# Altium footprint library AIRZAI_LID_BD_REVA.PcbLib: 60 footprints (part 4 of 4)
Each footprint in its own frame and in the unit in brackets; x right, y up, seen from the top. Pads: shape width x height; smd on the part's side, far side on the other; paste and mask are expansions set on the pad; w line width, h text height; cw(c..) or ccw(c..) is an arc to the next point about the centre after c.
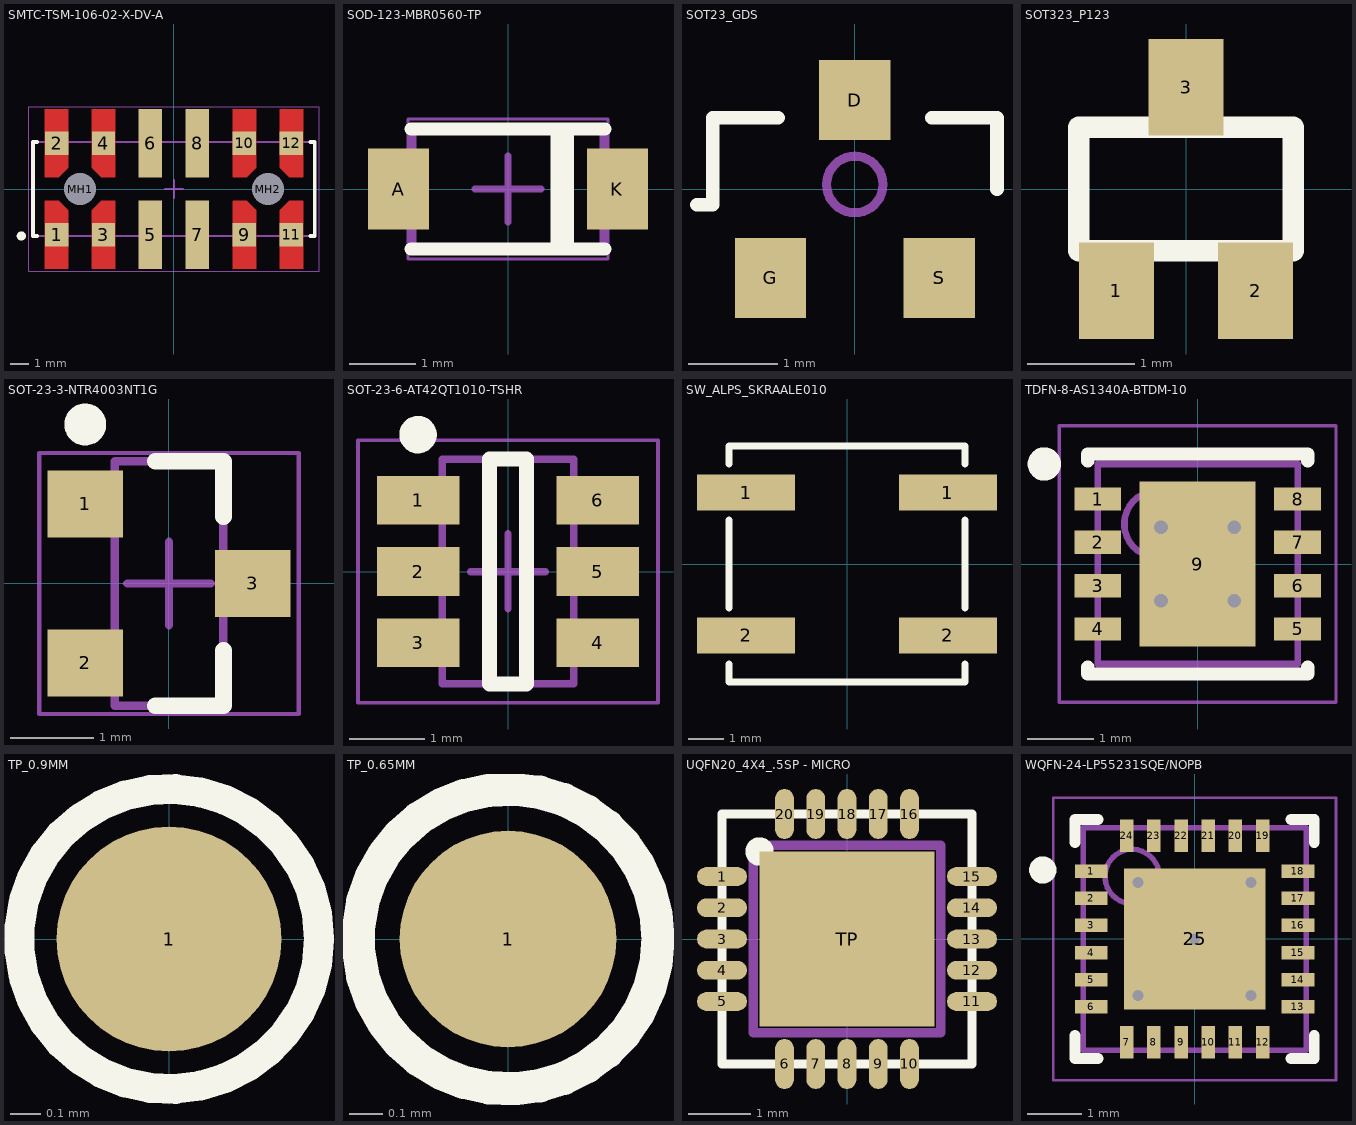
[diagram p3: the footprints below, top view; thin cyan lines are the x and y axes]

## SMTC-TSM-106-02-X-DV-A [mm] "Double Row Gullwing Asm, 2x6 Pins, Vertical, 2.54mm Pitch, Male"
height 12.19
pads (14):
  rect 1.27x1.27 smd: 1(-6.35,-2.475) 2(-6.35,2.475) 3(-3.81,-2.475) 4(-3.81,2.475) 9(3.81,-2.475) 10(3.81,2.475) 11(6.35,-2.475) 12(6.35,2.475)
  rect 1.27x3.68 smd: 5(-1.27,-2.475) 6(-1.27,2.475) 7(1.27,-2.475) 8(1.27,2.475)
  round 1.43 hole 1.73 unplated: MH1(-5.08,0) MH2(5.08,0)
Top Layer:
  region: -6.985,0.635 -6.225,0.635 -5.715,1.145 -5.715,4.315 -6.985,4.315
  region: -3.175,0.635 -3.935,0.635 -4.445,1.145 -4.445,4.315 -3.175,4.315
  region: 6.985,0.635 6.225,0.635 5.715,1.145 5.715,4.315 6.985,4.315
  region: 3.175,0.635 3.935,0.635 4.445,1.145 4.445,4.315 3.175,4.315
  region: 3.175,-0.635 3.935,-0.635 4.445,-1.145 4.445,-4.315 3.175,-4.315
  region: 6.985,-0.635 6.225,-0.635 5.715,-1.145 5.715,-4.315 6.985,-4.315
  region: -3.175,-0.635 -3.935,-0.635 -4.445,-1.145 -4.445,-4.315 -3.175,-4.315
  region: -6.985,-0.635 -6.225,-0.635 -5.715,-1.145 -5.715,-4.315 -6.985,-4.315
Top Overlay:
  circle w0.25: c-8.255,-2.54 r0.125
  lines w0.2: -7.385,-2.54 -7.62,-2.54 -7.62,2.54 -7.385,2.54 ; 7.385,-2.54 7.62,-2.54 7.62,2.54 7.385,2.54
Mechanical 13:
  lines w0.1: -7.62,-2.54 -7.62,2.54 7.62,2.54 7.62,-2.54 -7.62,-2.54
Mechanical 15:
  lines w0.05: -7.845,-4.44 -7.845,4.44 7.845,4.44 7.845,-4.44 -7.845,-4.44
  lines w0.1: -0.5,0 0.5,0 ; 0,-0.5 0,0.5
3D body "TSM-106-02-T-DV-A-TR.stp": height 11.94, standoff -1.27, extent -7.62,-3.721 7.62,3.721

## SOD-123-MBR0560-TP [mil] "SODFL, 2-Leads, Body 1.8x2.85mm, IPC Medium Density"
height 53.15
pads (2):
  rect 36x48.03 smd: A(-64.5,0) K(64.5,0)
Top Overlay:
  lines w7.8: 29,-35 29,35 ; 35,-35 35,34.43
  lines w7.87: -57.09,-35.43 57.09,-35.43 ; -57.09,35.43 57.09,35.43
Mechanical 13:
  lines w3.94: -56.1,-35.43 56.1,-35.43 56.1,35.43 -56.1,35.43 -56.1,-35.43
Mechanical 15:
  lines w1.97: -59.06,-41.34 59.06,-41.34 59.06,41.34 -59.06,41.34 -59.06,-41.34
  lines w3.94: -19.68,0 19.68,0 ; 0,-19.68 0,19.68
3D body "SW3DPS-SOD123-DEFAULT.STEP": height 52, standoff 2, extent -72.83,-31.49 72.84,31.51

## SOT23_GDS [mm]
height 1.2
pads (3):
  rect 0.8x0.9 smd: D(0,1)
  rect 0.8x0.9 smd paste-0.05 mask+0.07: G(-0.95,-1) S(0.95,-1)
Top Overlay:
  lines w0.152: -1.775,-0.175 -1.6,-0.175 -1.6,0.8 -0.864,0.8 ; 0.864,0.8 1.6,0.8 1.6,0
Mechanical 3:
  lines w0.102: -0.318,0.051 cw(c0,0.051) 0,0.368 cw(c0,0.051) 0.318,0.051 cw(c0,0.051) 0,-0.267 cw(c0,0.051) -0.318,0.051
3D body: height 1.2, standoff 0, extent -1.5,-0.7 1.5,0.7

## SOT323_P123 [mm] "123_PINS"
height 1
pads (3):
  rect 0.7x0.9 smd: 1(-0.65,-0.95) 2(0.65,-0.95) 3(0,0.95)
Top Overlay:
  lines w0.2: -1,-0.575 1,-0.575 1,0.575 -1,0.575 -1,-0.575
Mechanical 1:
  lines w0.127: -1,-0.6 -0.85,-0.6 1,-0.6 1,0.6 -1,0.6 -1,-0.6
3D body: height 0.1, standoff 0, extent 0.45,-1.1 0.85,-0.675
3D body: height 0.1, standoff 0, extent -0.85,-1.1 -0.45,-0.675
3D body: height 0.1, standoff 0, extent -0.2,0.675 0.2,1.1
3D body: height 1.1, standoff 0.1, extent -1.1,-0.675 1.1,0.675

## SOT-23-3-NTR4003NT1G [mm] "SOT23, 3-Leads, Body 2.92x1.3mm, Pitch 0.95mm"
height 1.11
pads (3):
  rect 0.9x0.8 smd: 1(-1,0.95) 2(-1,-0.95) 3(1,0)
Top Overlay:
  circle w0.25: c-1,1.9 r0.125
  lines w0.2: -0.165,-1.46 0.65,-1.46 0.65,-0.8 ; -0.165,1.46 0.65,1.46 0.65,0.8
Mechanical 13:
  lines w0.1: -0.65,-1.46 -0.65,1.46 0.65,1.46 0.65,-1.46 -0.65,-1.46
Mechanical 15:
  lines w0.05: -1.55,-1.56 -1.55,1.56 1.55,1.56 1.55,-1.56 -1.55,-1.56
  lines w0.1: -0.5,0 0.5,0 ; 0,-0.5 0,0.5
3D body: height 1.11, standoff 0.01, extent -0.65,-1.46 0.65,1.46

## SOT-23-6-AT42QT1010-TSHR [mm] "SOT23, 6-Leads, Body 2.9x1.6mm, Pitch 0.95mm, Lead Span 2.8mm, IPC Medium Density"
height 1.45
pads (6):
  rect 1.1x0.65 smd: 1(-1.2,0.95) 2(-1.2,0) 3(-1.2,-0.95) 4(1.2,-0.95) 5(1.2,0) 6(1.2,0.95)
Top Overlay:
  circle w0.25: c-1.2,1.825 r0.125
  lines w0.2: -0.25,-1.5 0.25,-1.5 0.25,1.5 -0.25,1.5 -0.25,-1.5
Mechanical 13:
  lines w0.1: -0.875,-1.5 -0.875,1.5 0.875,1.5 0.875,-1.5 -0.875,-1.5
Mechanical 15:
  lines w0.05: -2,-1.75 -2,1.75 2,1.75 2,-1.75 -2,-1.75
  lines w0.1: -0.5,0 0.5,0 ; 0,-0.5 0,0.5
3D body: height 1.45, standoff 0, extent -0.875,-1.5 0.875,1.5

## SW_ALPS_SKRAALE010 [mm] "6.2MM SQ 2.9RD ACT"
height 3.4
pads (4):
  rect 2.75x1 smd paste-0.1 mask+0.102: 1(-2.825,2) 1(2.825,2) 2(-2.825,-2) 2(2.825,-2)
Top Overlay:
  lines w0.198: -3.3,-2.8 -3.3,-3.3 3.3,-3.3 3.3,-2.8 ; -3.3,-1.233 -3.3,1.232 ; -3.3,2.8 -3.3,3.3 3.3,3.3 3.3,2.8 ; 3.3,-1.233 3.3,1.232
3D body "SKRAAL.STEP": height 3.48, standoff 0, extent -3.399,-3.215 3.399,3.215

## TDFN-8-AS1340A-BTDM-10 [mm]
height 0.8
pads (9):
  rect 0.7x0.35 smd: 1(-1.498,0.975) 2(-1.498,0.325) 3(-1.498,-0.325) 4(-1.498,-0.975) 5(1.498,-0.975) 6(1.498,-0.325) 7(1.498,0.325) 8(1.498,0.975)
  rect 1.74x2.48 smd: 9(0,0)
via -0.55,0.55 diameter 0.508 hole 0.203
via 0.55,0.55 diameter 0.508 hole 0.203
via -0.55,-0.55 diameter 0.508 hole 0.203
via 0.55,-0.55 diameter 0.508 hole 0.203
Top Overlay:
  circle w0.25: c-2.3,1.5 r0.125
  lines w0.2: -1.65,-1.55 -1.65,-1.65 0.25,-1.65 1.65,-1.65 1.65,-1.55 ; -1.65,1.55 -1.65,1.65 0.25,1.65 1.65,1.65 1.65,1.55
Mechanical 13:
  circle w0.1: c-0.6,0.6 r0.5
  lines w0.1: -1.5,-1.5 -1.5,1.5 1.5,1.5 1.5,-1.5 -1.5,-1.5
Mechanical 15:
  lines w0.05: -2.075,-2.075 -2.075,2.075 2.075,2.075 2.075,-2.075 -2.075,-2.075
  lines w0.1: -0.5,0 0.5,0 ; 0,-0.5 0,0.5
3D body "TDFN-8-AS1340A-BTDM-10.step": height 0.8, standoff 0, extent -1.51,-1.5 1.51,1.5

## TP_0.9MM [mm] "0.9MM DIA TESTPOINT"
height 7
pads (1):
  round 0.75 smd paste-5 mask+0.05: 1(0,0)
Top Overlay:
  circle w0.1: c0,0 r0.5

## TP_0.65MM [mm] "0.65MM DIA TESTPOINT"
height 7
pads (1):
  round 0.65 smd paste-5 mask+0.05: 1(0,0)
Top Overlay:
  circle w0.1: c0,0 r0.45

## UQFN20_4X4_.5SP - MICRO [mm]
height 0.5
pads (21):
  rrect100% 0.8x0.3 smd paste-0.025 mask+0.05: 1(-2,1) 2(-2,0.5) 3(-2,0) 4(-2,-0.5) 5(-2,-1) 11(2,-1) 12(2,-0.5) 13(2,0) 14(2,0.5) 15(2,1)
  rrect100% 0.3x0.8 smd paste-0.025 mask+0.05: 6(-1,-2) 7(-0.5,-2) 8(0,-2) 9(0.5,-2) 10(1,-2) 16(1,2) 17(0.5,2) 18(0,2) 19(-0.5,2) 20(-1,2)
  rect 2.8x2.8 smd paste-5 mask+0.05: TP(0,0)
Top Overlay:
  circle w0.254: c-1.4,1.4 r0.1
  lines w0.15: -2,-2 -2,2 2,2 2,-2 -2,-2
Top Paste:
  region: 1.194,-0.508 1.202,-0.527 1.202,-1.077 1.194,-1.096 1.175,-1.104 0.625,-1.104 0.606,-1.096 0.598,-1.077 0.598,-0.527 0.606,-0.508 0.625,-0.5 1.175,-0.5
  region: 1.192,0.294 1.2,0.275 1.2,-0.275 1.192,-0.294 1.173,-0.302 0.623,-0.302 0.604,-0.294 0.596,-0.275 0.596,0.275 0.604,0.294 0.623,0.302 1.173,0.302
  region: 1.194,1.096 1.202,1.077 1.202,0.527 1.194,0.508 1.175,0.5 0.625,0.5 0.606,0.508 0.598,0.527 0.598,1.077 0.606,1.096 0.625,1.104 1.175,1.104
  region: 0.294,-0.508 0.302,-0.527 0.302,-1.077 0.294,-1.096 0.275,-1.104 -0.275,-1.104 -0.294,-1.096 -0.302,-1.077 -0.302,-0.527 -0.294,-0.508 -0.275,-0.5 0.275,-0.5
  region: 0.292,0.294 0.3,0.275 0.3,-0.275 0.292,-0.294 0.273,-0.302 -0.277,-0.302 -0.296,-0.294 -0.304,-0.275 -0.304,0.275 -0.296,0.294 -0.277,0.302 0.273,0.302
  region: 0.294,1.096 0.302,1.077 0.302,0.527 0.294,0.508 0.275,0.5 -0.275,0.5 -0.294,0.508 -0.302,0.527 -0.302,1.077 -0.294,1.096 -0.275,1.104 0.275,1.104
  region: -0.606,1.096 -0.598,1.077 -0.598,0.527 -0.606,0.508 -0.625,0.5 -1.175,0.5 -1.194,0.508 -1.202,0.527 -1.202,1.077 -1.194,1.096 -1.175,1.104 -0.625,1.104
  region: -0.608,0.294 -0.6,0.275 -0.6,-0.275 -0.608,-0.294 -0.627,-0.302 -1.177,-0.302 -1.196,-0.294 -1.204,-0.275 -1.204,0.275 -1.196,0.294 -1.177,0.302 -0.627,0.302
  region: -0.606,-0.508 -0.598,-0.527 -0.598,-1.077 -0.606,-1.096 -0.625,-1.104 -1.175,-1.104 -1.194,-1.096 -1.202,-1.077 -1.202,-0.527 -1.194,-0.508 -1.175,-0.5 -0.625,-0.5
Mechanical 1:
  circle w0.15: c-0.85,-0.85 r0.206
  lines w0.15: -1.5,-1.5 -1.5,1.5 1.5,1.5 1.5,-1.5 -1.5,-1.5
  text ".Designator" at -1.1,-0.325 h0.48
3D body: height 0.5, standoff 0, extent -2,-2 2,2

## WQFN-24-LP55231SQE/NOPB [mm] "QFN, 24-Leads, Body 3.97x3.97mm, Pitch 0.50mm, Thermal Pad 2.60x2.60mm, IPC Medium Density"
height 0.8
pads (25):
  rect 0.6x0.25 smd: 1(-1.9,1.25) 2(-1.9,0.75) 3(-1.9,0.25) 4(-1.9,-0.25) 5(-1.9,-0.75) 6(-1.9,-1.25) 13(1.9,-1.25) 14(1.9,-0.75) 15(1.9,-0.25) 16(1.9,0.25) 17(1.9,0.75) 18(1.9,1.25)
  rect 0.25x0.6 smd: 7(-1.25,-1.9) 8(-0.75,-1.9) 9(-0.25,-1.9) 10(0.25,-1.9) 11(0.75,-1.9) 12(1.25,-1.9) 19(1.25,1.9) 20(0.75,1.9) 21(0.25,1.9) 22(-0.25,1.9) 23(-0.75,1.9) 24(-1.25,1.9)
  rect 2.6x2.6 smd: 25(0,0)
via 0,0 diameter 0.508 hole 0.203
via -1.04,1.04 diameter 0.508 hole 0.203
via 1.04,1.04 diameter 0.508 hole 0.203
via -1.04,-1.04 diameter 0.508 hole 0.203
via 1.04,-1.04 diameter 0.508 hole 0.203
Top Overlay:
  circle w0.25: c-2.794,1.27 r0.125
  lines w0.2: -2.2,-1.775 -2.2,-2.2 -1.775,-2.2 ; -2.2,1.775 -2.2,2.2 -1.775,2.2 ; 1.775,-2.2 2.2,-2.2 2.2,-1.775 ; 1.775,2.2 2.2,2.2 2.2,1.775
Mechanical 13:
  circle w0.1: c-1.15,1.15 r0.5
  lines w0.1: -2.05,-2.05 -2.05,2.05 2.05,2.05 2.05,-2.05 -2.05,-2.05
Mechanical 15:
  lines w0.05: -2.6,-2.6 -2.6,2.6 2.6,2.6 2.6,-2.6 -2.6,-2.6
  lines w0.1: -0.5,0 0.5,0 ; 0,-0.5 0,0.5
3D body "User Library-WQFN-24.STEP": height 0.8, standoff 0, extent -2.01,-2.01 2.01,2.01